# Altium schematic symbol library Schematics_Library.SchLib: 4 symbols
Pins are listed as number, name and electrical type; pins without a type are passive.

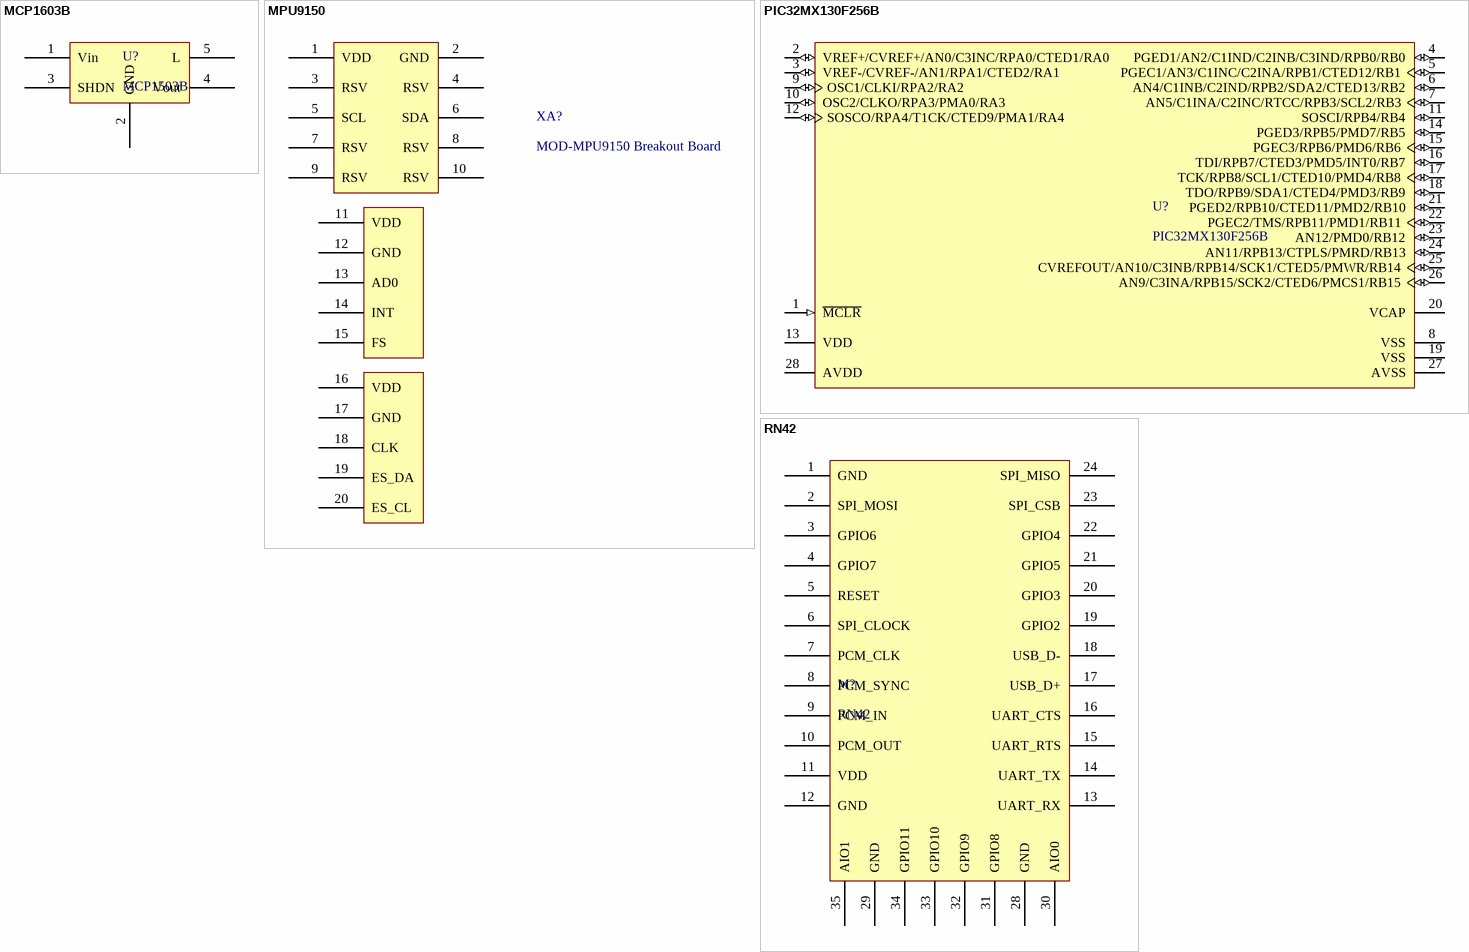
[diagram p0: symbols MCP1603B to RN42]

## MCP1603B
designator U?, comment MCP1503B
Fixed 3.3Vout 0.5Aout regulator; Fabricant: Microchip; RefFabricant: MCP1603T-330I/OS; Fournisseur: Farnell; RefFournisseur: 1439373
footprint MCP1603B/TSOT (TSOT Package for MCP1603 and MCP1603B buck regulator)
pins: 1 Vin, 2 GND, 3 SHDN, 4 Vout, 5 L

## MPU9150
designator XA?, comment MOD-MPU9150 Breakout Board
30310-5002HB. -  CONNECTOR, HEADER, 10 POSITION, 2ROW, 2.; Fournisseur: Farnell; RefFournisseur: 2134098; Fabricant: 3M; RefFabricant: 30310-5002HB
footprint MOD-MPU9150 (Header for the UEXT + 1)
pins: 1 VDD, 2 GND, 3 RSV, 4 RSV, 5 SCL, 6 SDA, 7 RSV, 8 RSV, 9 RSV, 10 RSV, 11 VDD, 12 GND, 13 AD0, 14 INT, 15 FS, 16 VDD, 17 GND, 18 CLK, 19 ES_DA, 20 ES_CL

## PIC32MX130F256B
designator U?
PIC32MX Family Microcontroller; Package: SOIC
footprint PIC32MX130F256B
pins: 1 ~{MCLR} (in) "Master Clear (Reset) input. This pin is an active-low Reset to the device", 2 VREF+/CVREF+/AN0/C3INC/RPA0/CTED1/RA0 (io), 3 VREF-/CVREF-/AN1/RPA1/CTED2/RA1 (io), 4 PGED1/AN2/C1IND/C2INB/C3IND/RPB0/RB0 (io), 5 PGEC1/AN3/C1INC/C2INA/RPB1/CTED12/RB1 (io), 6 AN4/C1INB/C2IND/RPB2/SDA2/CTED13/RB2 (io), 7 AN5/C1INA/C2INC/RTCC/RPB3/SCL2/RB3 (io), 8 VSS (power) "Ground reference for logic and I/O pins. This pin must be connected at all times.", 9 OSC1/CLKI/RPA2/RA2 (io), 10 OSC2/CLKO/RPA3/PMA0/RA3 (io), 11 SOSCI/RPB4/RB4 (io), 12 SOSCO/RPA4/T1CK/CTED9/PMA1/RA4 (io), 13 VDD (power) "Positive supply for peripheral logic and I/O pins", 14 PGED3/RPB5/PMD7/RB5 (io), 15 PGEC3/RPB6/PMD6/RB6 (io), 16 TDI/RPB7/CTED3/PMD5/INT0/RB7 (io), 17 TCK/RPB8/SCL1/CTED10/PMD4/RB8 (io), 18 TDO/RPB9/SDA1/CTED4/PMD3/RB9 (io), 19 VSS (power) "Ground reference for logic and I/O pins. This pin must be connected at all times.", 20 VCAP "CPU logic filter capacitor connection", 21 PGED2/RPB10/CTED11/PMD2/RB10 (io), 22 PGEC2/TMS/RPB11/PMD1/RB11 (io), 23 AN12/PMD0/RB12 (io), 24 AN11/RPB13/CTPLS/PMRD/RB13 (io), 25 CVREFOUT/AN10/C3INB/RPB14/SCK1/CTED5/PMWR/RB14 (io), 26 AN9/C3INA/RPB15/SCK2/CTED6/PMCS1/RB15 (io), 27 AVSS (power) "Ground reference for analog modules", 28 AVDD (power) "Positive supply for analog modules. This pin must be connected at all times"

## RN42
designator M?
RN42 Bluetooth Module by Roven Networks; Fournisseur: Farnell; Fabricant: Microchip; RefFabricant: RN42HID-I/RM; RefFournisseur: 2775075
footprint RN42 (RN42 Bluetooth Module with antenna)
pins: 1 GND, 2 SPI_MOSI, 3 GPIO6, 4 GPIO7, 5 RESET, 6 SPI_CLOCK, 7 PCM_CLK, 8 PCM_SYNC, 9 PCM_IN, 10 PCM_OUT, 11 VDD, 12 GND, 13 UART_RX, 14 UART_TX, 15 UART_RTS, 16 UART_CTS, 17 USB_D+, 18 USB_D-, 19 GPIO2, 20 GPIO3, 21 GPIO5, 22 GPIO4, 23 SPI_CSB, 24 SPI_MISO, 28 GND, 29 GND, 30 AIO0, 31 GPIO8, 32 GPIO9, 33 GPIO10, 34 GPIO11, 35 AIO1